# Altium schematic symbol library leds.SchLib: 11 symbols
Pins are listed as number, name and electrical type; pins without a type are passive.

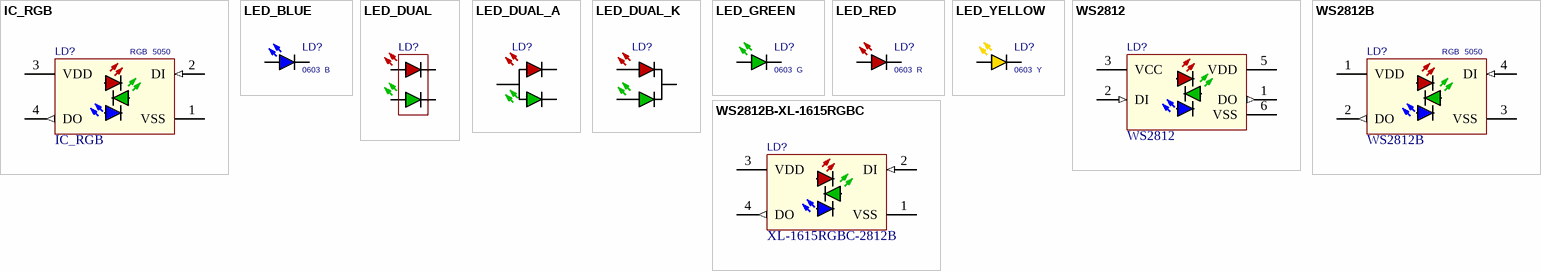
[diagram p0: symbols IC_RGB to WS2812B-XL-1615RGBC]

## IC_RGB
designator LD?  PackageReference: 5050  Color: RGB  (hidden comment: IC_RGB)
Multi-Colour LEDs PLCC4 RGB with IC; Value: IC_RGB
footprint PLCC4_5050
pins: 1 VSS (power), 2 DI (in), 3 VDD (power), 4 DO (out)

## LED_BLUE
designator LD?, comment Color: B  PackageReference: 0603  (hidden comment: LED_B)
LED Blue; Value: *
footprint LED0805
footprint LED-5-V-BLUE (LED; 2 Leads; Vertical)
footprint LED0603
pins: 1, 2

## LED_DUAL
designator LD?  (value not drawn)
LED Dual (R/G); Value: *
pins: 1 R_A, 2 R_K, 3 G_A, 4 G_K

## LED_DUAL_A
designator LD?  (value not drawn)
LED Dual (R/G); Value: *
footprint LED-V-DUAL-A (DUAL LED; 3 Leads; Common anode)
pins: 1 R_K, 2 A, 3 G_K

## LED_DUAL_K
designator LD?  (value not drawn)
LED Dual (R/G); Value: *
footprint LED-V-DUAL-K (DUAL LED; 3 Leads; Common cathode)
pins: 1 R_A, 2 K, 3 G_A

## LED_GREEN
designator LD?, comment Color: G  PackageReference: 0603  (hidden comment: LED_G)
LED Green; Value: *
footprint LED0805
footprint LED-H (LED; 2 Leads; Hor)
footprint LED-V (LED; 2 Leads; Vertical)
footprint LED0603
pins: 1, 2

## LED_RED
designator LD?, comment PackageReference: 0603  Color: R  (hidden comment: LED_R)
LED Red; Value: *
footprint LED0805
footprint LED-5-H-RED (LED; 2 Leads; Hor)
footprint LED-5-V-RED (LED; 2 Leads; Vertical)
footprint LED0603
pins: 1, 2

## LED_YELLOW
designator LD?, comment PackageReference: 0603  Color: Y  (hidden comment: LED_Y)
LED Yellow; Value: *
footprint LED0805
footprint LED-5-V-YELLOW (LED; 2 Leads; Vertical)
footprint LED0603
pins: 1, 2

## WS2812
designator LD?
Intelligent control LED / integrated light source; Value: WS2812
footprint PLCC6_5050
pins: 1 DO (out), 2 DI (in), 3 VCC (power) "Power supply control circuit", 5 VDD (power) "Power supply LED", 6 VSS (power)

## WS2812B
designator LD?  PackageReference: 5050  Color: RGB  (hidden comment: WS2812B)
Intelligent control LED / integrated light source; Value: WS2812B
footprint PLCC4_5050
pins: 1 VDD (power), 2 DO (out), 3 VSS (power), 4 DI (in)

## WS2812B-XL-1615RGBC
designator LD?, comment value XL-1615RGBC-2812B  (hidden comment: RGB LED)
Intelligent control LED integrated light source; Color: RGB; JLCPCB Part: C5349954
footprint SMD-1615 (SMD, 4-Leads, Body 1.50x1.60mm, Pitch 0.95mm, IPC Medium Density)
pins: 1 VSS (power), 2 DI (in), 3 VDD (power), 4 DO (out)